# EAGLE library part ESDA6V1P6 (library my-STMicroelectronics)
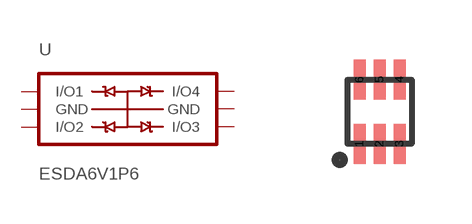
[diagram p2: symbol with the pads of SOT-666; footprint SOT-666]

Designator prefix -

## ESDA6V1P6  [SOT-666]
1  I/O1
2  GND
3  I/O2
4  I/O3
5  GND
6  I/O4

## Footprint SOT-666 (pad centres in mm)
smd 0.3 x 0.99: 1 -0.5,-0.805; 2 0,-0.805; 3 0.5,-0.805; 4 0.5,0.805; 5 0,0.805; 6 -0.5,0.805